# EAGLE library part CP2105 (library silicon-labs)
CP2105 edit this description Auto generated by make-symbol-device-package-bsdl.ulp Rev. 44 Source: CP2105.txt
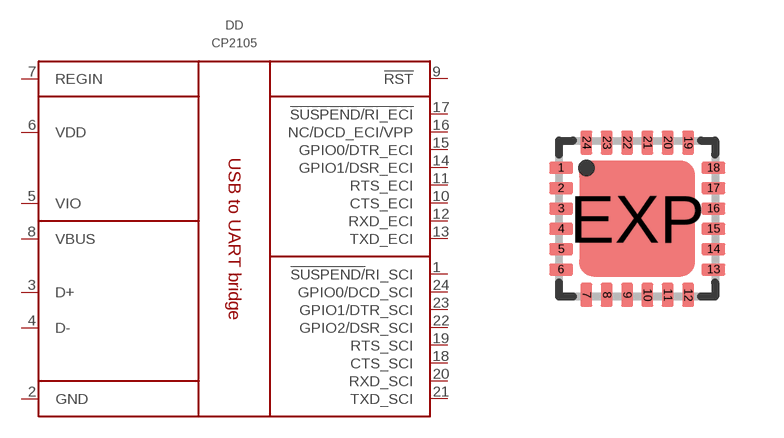
[diagram p1: symbol with the pads of QFN24; footprint QFN24]

Designator prefix DD

## CP2105-F01-GM  [QFN24]
1  !SUSPEND/!RI_SCI  in
2  GND  pwr
3  D+
4  D-
5  VIO  pwr
6  VDD  pwr
7  REGIN  pwr
8  VBUS  pwr
9  !RST  in
10  CTS_ECI  in
11  RTS_ECI  out
12  RXD_ECI  in
13  TXD_ECI  out
14  GPIO1/DSR_ECI  in
15  GPIO0/DTR_ECI  out
16  NC/DCD_ECI/VPP  in
17  !SUSPEND/RI_ECI  in
18  CTS_SCI  in
19  RTS_SCI  out
20  RXD_SCI  in
21  TXD_SCI  out
22  GPIO2/DSR_SCI  in
23  GPIO1/DTR_SCI  out
24  GPIO0/DCD_SCI  in

## Footprint QFN24 (pad centres in mm)
QFN 4x4 mm Source: http://www.hittite.com/product_info/product_specs/dividersdetectors/hmc394lp4.pdf
smd 0.6 x 0.3: 1 -1.905,1.27; 2 -1.905,0.762; 3 -1.905,0.254; 4 -1.905,-0.254; 5 -1.905,-0.762; 6 -1.905,-1.27; 13 1.905,-1.27; 14 1.905,-0.762; 15 1.905,-0.254; 16 1.905,0.254; 17 1.905,0.762; 18 1.905,1.27
smd 0.3 x 0.6: 7 -1.27,-1.905; 8 -0.762,-1.905; 9 -0.254,-1.905; 10 0.254,-1.905; 11 0.762,-1.905; 12 1.27,-1.905; 19 1.27,1.905; 20 0.762,1.905; 21 0.254,1.905; 22 -0.254,1.905; 23 -0.762,1.905; 24 -1.27,1.905
smd 2.9 x 2.9: EXP 0,0